# Altium schematic symbol library 常用接插件.SchLib: 27 symbols
Pins are listed as number, name and electrical type; pins without a type are passive.

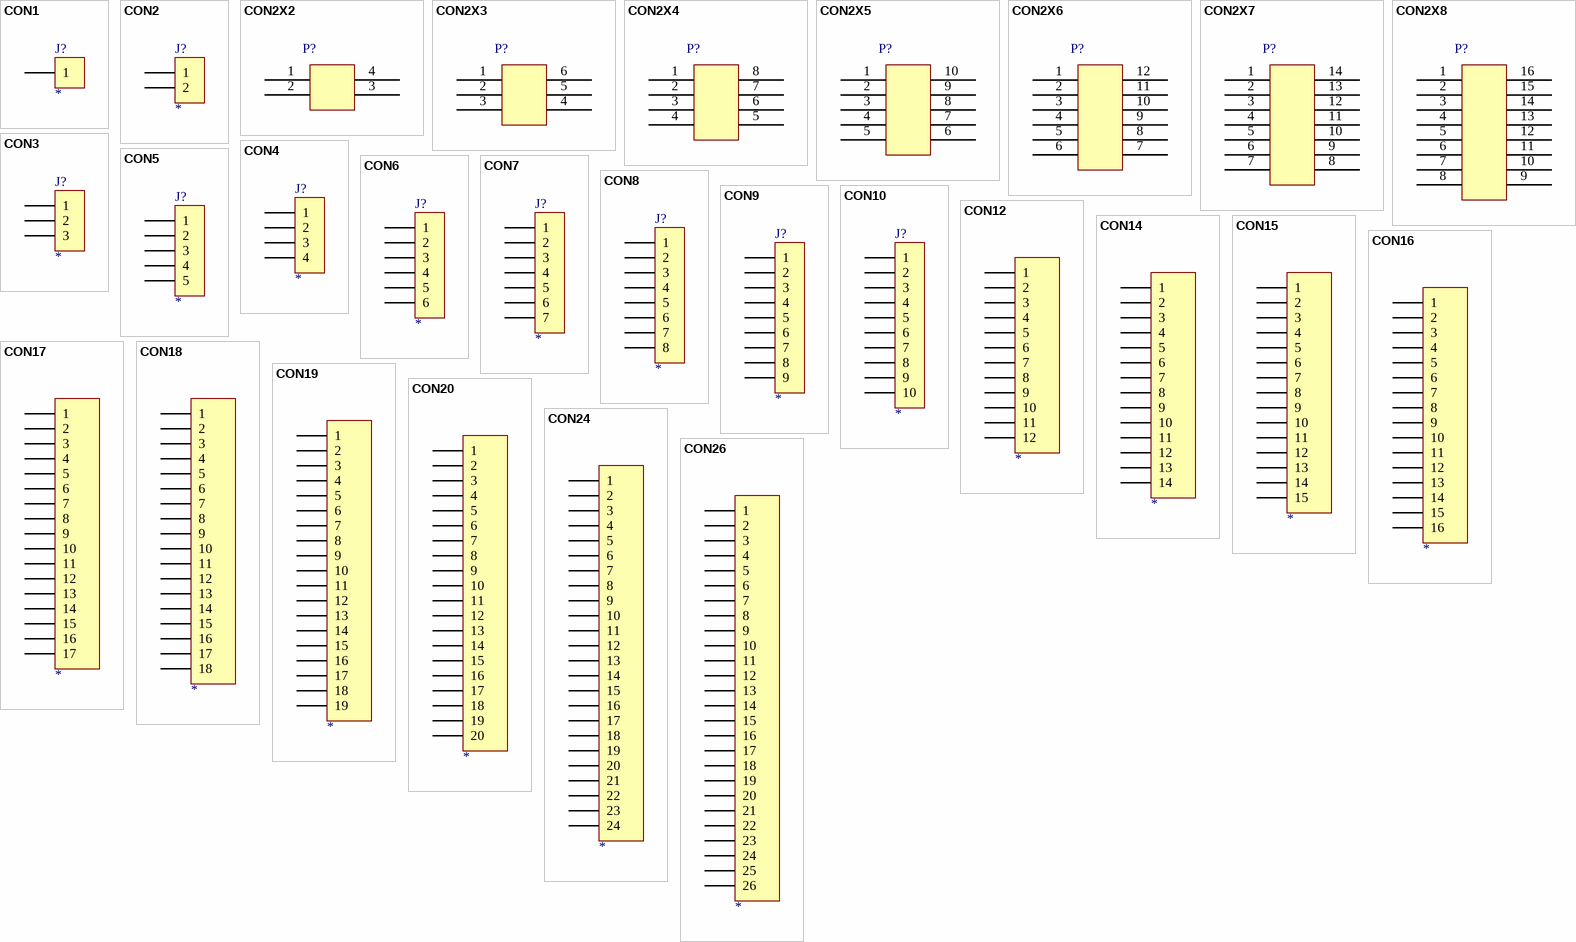
[diagram p0: symbols CON1 to CON26]

## CON1
designator J?
footprint DG1281-5.0
footprint SIP1
pins: 1

## CON2
designator J?
footprint DG1282-5.0
footprint SIP2
footprint DG1282
pins: 1, 2

## CON2X2
designator P?  (value not drawn)
pins: 1, 2, 3, 4

## CON2X3
designator P?  (value not drawn)
pins: 1, 2, 3, 4, 5, 6

## CON2X4
designator P?  (value not drawn)
pins: 1, 2, 3, 4, 5, 6, 7, 8

## CON2X5
designator P?  (value not drawn)
pins: 1, 2, 3, 4, 5, 6, 7, 8, 9, 10

## CON2X6
designator P?  (value not drawn)
pins: 1, 2, 3, 4, 5, 6, 7, 8, 9, 10, 11, 12

## CON2X7
designator P?  (value not drawn)
pins: 1, 2, 3, 4, 5, 6, 7, 8, 9, 10, 11, 12, 13, 14

## CON2X8
designator P?  (value not drawn)
pins: 1, 2, 3, 4, 5, 6, 7, 8, 9, 10, 11, 12, 13, 14, 15, 16

## CON3
designator J?
footprint DG1283-5.0
footprint SIP3
pins: 1, 2, 3

## CON4
designator J?
footprint DG1284-5.0
footprint SIP4
footprint DG1284
pins: 1, 2, 3, 4

## CON5
designator J?
footprint DG1285-5.0
footprint SIP5
pins: 1, 2, 3, 4, 5

## CON6
designator J?
footprint DG1286-5.0
footprint SIP6
footprint DG1286
pins: 1, 2, 3, 4, 5, 6

## CON7
designator J?
footprint DG1287-5.0
footprint SIP7
pins: 1, 2, 3, 4, 5, 6, 7

## CON8
designator J?
footprint DG1288-5.0
footprint SIP8
pins: 1, 2, 3, 4, 5, 6, 7, 8

## CON9
designator J?
footprint DG1289-5.0
footprint SIP9
pins: 1, 2, 3, 4, 5, 6, 7, 8, 9

## CON10
designator J?
footprint DG12810-5.0
footprint sip10
pins: 1, 2, 3, 4, 5, 6, 7, 8, 9, 10

## CON12
designator ?
pins: 1, 2, 3, 4, 5, 6, 7, 8, 9, 10, 11, 12

## CON14
designator ?
pins: 1, 2, 3, 4, 5, 6, 7, 8, 9, 10, 11, 12, 13, 14

## CON15
designator ?
pins: 1, 2, 3, 4, 5, 6, 7, 8, 9, 10, 11, 12, 13, 14, 15

## CON16
designator ?
pins: 1, 2, 3, 4, 5, 6, 7, 8, 9, 10, 11, 12, 13, 14, 15, 16

## CON17
designator ?
pins: 1, 2, 3, 4, 5, 6, 7, 8, 9, 10, 11, 12, 13, 14, 15, 16, 17

## CON18
designator ?
pins: 1, 2, 3, 4, 5, 6, 7, 8, 9, 10, 11, 12, 13, 14, 15, 16, 17, 18

## CON19
designator ?
pins: 1, 2, 3, 4, 5, 6, 7, 8, 9, 10, 11, 12, 13, 14, 15, 16, 17, 18, 19

## CON20
designator ?
pins: 1, 2, 3, 4, 5, 6, 7, 8, 9, 10, 11, 12, 13, 14, 15, 16, 17, 18, 19, 20

## CON24
designator ?
pins: 1, 2, 3, 4, 5, 6, 7, 8, 9, 10, 11, 12, 13, 14, 15, 16, 17, 18, 19, 20, 21, 22, 23, 24

## CON26
designator ?
pins: 1, 2, 3, 4, 5, 6, 7, 8, 9, 10, 11, 12, 13, 14, 15, 16, 17, 18, 19, 20, 21, 22, 23, 24, 25, 26